# EAGLE library part ESPRESSIF_SYSTEMS_ESP32-PICO-D4 (library Upverter Library)
Bluetooth, WiFi 802.11b/g/n, Bluetooth v4.2 + EDR, Class 1, 2 and 3 Transceiver Module 2.4GHz ~ 2.5GHz Surface Mount
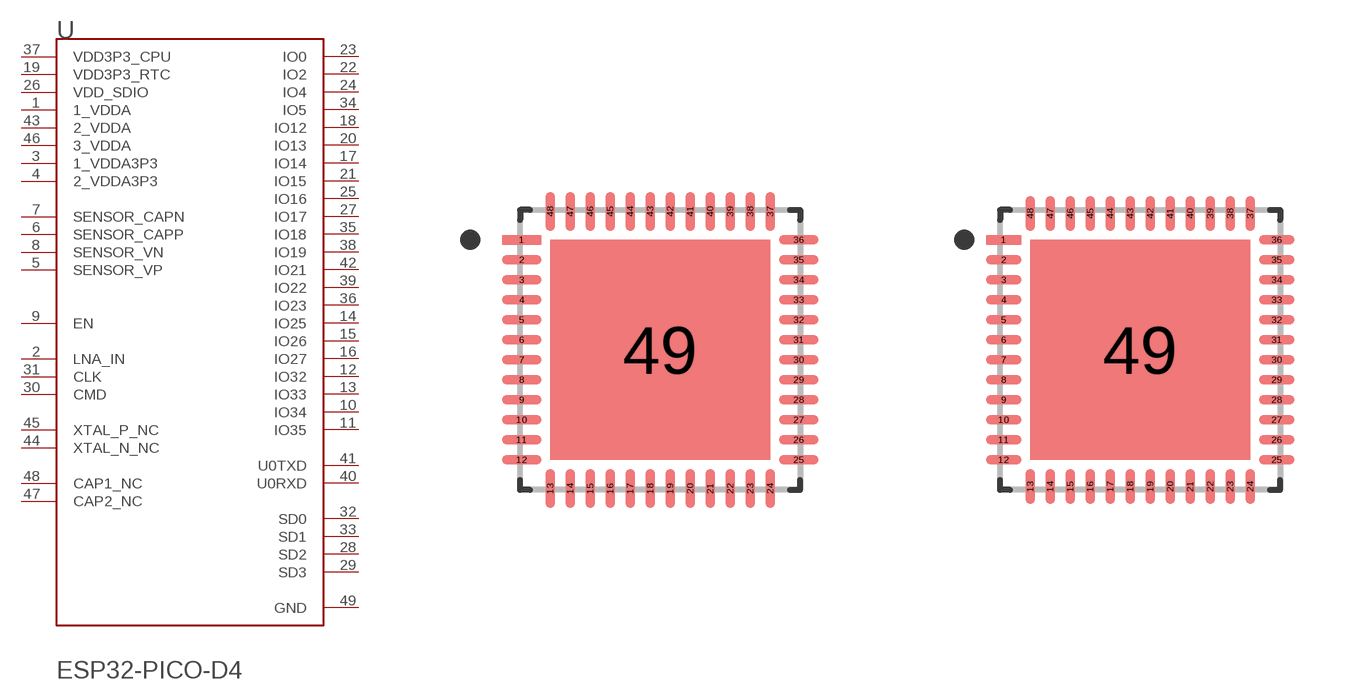
[diagram p0: symbol with the pads of ESPRESSIF_SYSTEMS_ESP32-PICO-D4_0; footprints ESPRESSIF_SYSTEMS_ESP32-PICO-D4_0, ESPRESSIF_SYSTEMS_ESP32-PICO-D4_1]

Designator prefix U

## ESPRESSIF_SYSTEMS_ESP32-PICO-D4ESPRESSIF_SYSTEMS_ESP32-PICO-D4_0_0 (MF: Espressif Systems; MPN: ESP32-PICO-D4; automotive: No; bandwidth: 72MHz; centroid_not_specified: No; data_rate: 150Mbits/s; datasheet: https://www.espressif.com/sites/default/files/documentation/esp32-pico-d4_datasheet_en.pdf; device_class_L1: Integrated Circuits (ICs); device_class_L2: RF Semiconductors and Devices; device_class_L3: Transceivers; digikey_description: RX TXRX MOD WIFI SURFACE MOUNT; digikey_part_number: 1904-1029-1-ND; footprint_parameters_0: {"fp_type":"QFN","params":{"N1":{"nom":12,"long name":"Leads on long side","min":null,"max":null,"short name":"N1","type":"count"},"N2":{"nom":12,"long name":"Leads on wide side","min":null,"max":null,"short name":"N2","type":"count"},"A":{"nom":940000,"long name":"Height","min":840000,"max":1040000,"short name":"A","type":"measurement"},"A1":{"nom":false,"long name":"Package clearance","min":0,"max":50000,"short name":"A1","type":"measurement"},"A2":{"nom":false,"long name":"Package height","min":false,"max":1040000,"short name":"A2","type":"measurement"},"D":{"nom":7000000,"long name":"Package length","min":6900000,"max":7100000,"short name":"D","type":"measurement"},"E":{"nom":7000000,"long name":"Package width","min":6900000,"max":7100000,"short name":"E","type":"measurement"},"B":{"nom":250000,"long name":"Lead width","min":200000,"max":300000,"short name":"B","type":"measurement"},"C":{"nom":260000,"long name":"Lead thickness","min":null,"max":null,"short name":"C","type":"measurement"},"L":{"nom":400000,"long name":"Lead foot length","min":325000,"max":475000,"short name":"L","type":"measurement"},"e":{"nom":500000,"long name":"Lead pitch","min":null,"max":null,"short name":"e","type":"measurement"},"D2":{"nom":5400000,"long name":"Thermal pad length","min":5300000,"max":5500000,"short name":"D2","type":"measurement"},"E2":{"nom":5400000,"long name":"Thermal pad width","min":5300000,"max":5500000,"short name":"E2","type":"measurement"},"PC":{"long name":"Paste coverage (%)","type":"percentage","short name":"PC","value":40},"HT":{"default":"Yes","long name":"Thermal pad","type":"multichoiceparent","short name":"HT","children":["D2","E2","PC"]},"offset x":{"nom":0,"long name":"X Center offset","min":null,"max":null,"short name":"offset x","type":"measurement"},"offset y":{"nom":0,"long name":"Y Center offset","min":null,"max":null,"short name":"offset y","type":"measurement"},"LS":{"default":"Rounded rectangle","long name":"Land shape","type":"multichoice","short name":"LS"},"LS1":{"default":"Rectangle","long name":"Land shape (Pin 1)","type":"multichoice","short name":"LS1"},"solder toe":{"nom":400000,"long name":"Solder fillet (toe)","min":null,"max":null,"short name":"solder toe","type":"fixedmeasurement"},"solder heel":{"nom":0,"long name":"Solder fillet (heel)","min":null,"max":null,"short name":"solder heel","type":"fixedmeasurement"},"solder side":{"nom":-40000,"long name":"Solder fillet (side)","min":null,"max":null,"short name":"solder side","type":"fixedmeasurement"},"courtyard":{"nom":500000,"long name":"Courtyard","min":null,"max":null,"short name":"courtyard","type":"fixedmeasurement"},"SF":{"default":"A","long name":"Packing level","type":"multichoiceparent","short name":"SF","help":"http://support.upverter.com/customer/portal/articles/978783-what-is-a-footprint-packing-level","children":["solder toe","solder heel","solder side","courtyard"]}}}; footprint_parameters_1: {"fp_type":"QFN","params":{"N1":{"nom":12,"long name":"Leads on long side","min":null,"max":null,"short name":"N1","type":"count"},"N2":{"nom":12,"long name":"Leads on wide side","min":null,"max":null,"short name":"N2","type":"count"},"A":{"nom":940000,"long name":"Height","min":840000,"max":1040000,"short name":"A","type":"measurement"},"A1":{"nom":false,"long name":"Package clearance","min":0,"max":50000,"short name":"A1","type":"measurement"},"A2":{"nom":false,"long name":"Package height","min":false,"max":1040000,"short name":"A2","type":"measurement"},"D":{"nom":7000000,"long name":"Package length","min":6900000,"max":7100000,"short name":"D","type":"measurement"},"E":{"nom":7000000,"long name":"Package width","min":6900000,"max":7100000,"short name":"E","type":"measurement"},"B":{"nom":250000,"long name":"Lead width","min":200000,"max":300000,"short name":"B","type":"measurement"},"C":{"nom":260000,"long name":"Lead thickness","min":null,"max":null,"short name":"C","type":"measurement"},"L":{"nom":400000,"long name":"Lead foot length","min":325000,"max":475000,"short name":"L","type":"measurement"},"e":{"nom":500000,"long name":"Lead pitch","min":null,"max":null,"short name":"e","type":"measurement"},"D2":{"nom":5400000,"long name":"Thermal pad length","min":5300000,"max":5500000,"short name":"D2","type":"measurement"},"E2":{"nom":5400000,"long name":"Thermal pad width","min":5300000,"max":5500000,"short name":"E2","type":"measurement"},"PC":{"long name":"Paste coverage (%)","type":"percentage","short name":"PC","value":40},"HT":{"default":"Yes","long name":"Thermal pad","type":"multichoiceparent","short name":"HT","children":["D2","E2","PC"]},"offset x":{"nom":0,"long name":"X Center offset","min":null,"max":null,"short name":"offset x","type":"measurement"},"offset y":{"nom":0,"long name":"Y Center offset","min":null,"max":null,"short name":"offset y","type":"measurement"},"LS":{"default":"Rounded rectangle","long name":"Land shape","type":"multichoice","short name":"LS"},"LS1":{"default":"Rectangle","long name":"Land shape (Pin 1)","type":"multichoice","short name":"LS1"},"solder toe":{"nom":300000,"long name":"Solder fillet (toe)","min":null,"max":null,"short name":"solder toe","type":"fixedmeasurement"},"solder heel":{"nom":0,"long name":"Solder fillet (heel)","min":null,"max":null,"short name":"solder heel","type":"fixedmeasurement"},"solder side":{"nom":-40000,"long name":"Solder fillet (side)","min":null,"max":null,"short name":"solder side","type":"fixedmeasurement"},"courtyard":{"nom":250000,"long name":"Courtyard","min":null,"max":null,"short name":"courtyard","type":"fixedmeasurement"},"SF":{"default":"B","long name":"Packing level","type":"multichoiceparent","short name":"SF","help":"http://support.upverter.com/customer/portal/articles/978783-what-is-a-footprint-packing-level","children":["solder toe","solder heel","solder side","courtyard"]}}}; footprint_parameters_2: {"fp_type":"QFN","params":{"N1":{"nom":12,"long name":"Leads on long side","min":null,"max":null,"short name":"N1","type":"count"},"N2":{"nom":12,"long name":"Leads on wide side","min":null,"max":null,"short name":"N2","type":"count"},"A":{"nom":940000,"long name":"Height","min":840000,"max":1040000,"short name":"A","type":"measurement"},"A1":{"nom":false,"long name":"Package clearance","min":0,"max":50000,"short name":"A1","type":"measurement"},"A2":{"nom":false,"long name":"Package height","min":false,"max":1040000,"short name":"A2","type":"measurement"},"D":{"nom":7000000,"long name":"Package length","min":6900000,"max":7100000,"short name":"D","type":"measurement"},"E":{"nom":7000000,"long name":"Package width","min":6900000,"max":7100000,"short name":"E","type":"measurement"},"B":{"nom":250000,"long name":"Lead width","min":200000,"max":300000,"short name":"B","type":"measurement"},"C":{"nom":260000,"long name":"Lead thickness","min":null,"max":null,"short name":"C","type":"measurement"},"L":{"nom":400000,"long name":"Lead foot length","min":325000,"max":475000,"short name":"L","type":"measurement"},"e":{"nom":500000,"long name":"Lead pitch","min":null,"max":null,"short name":"e","type":"measurement"},"D2":{"nom":5400000,"long name":"Thermal pad length","min":5300000,"max":5500000,"short name":"D2","type":"measurement"},"E2":{"nom":5400000,"long name":"Thermal pad width","min":5300000,"max":5500000,"short name":"E2","type":"measurement"},"PC":{"long name":"Paste coverage (%)","type":"percentage","short name":"PC","value":40},"HT":{"default":"Yes","long name":"Thermal pad","type":"multichoiceparent","short name":"HT","children":["D2","E2","PC"]},"offset x":{"nom":0,"long name":"X Center offset","min":null,"max":null,"short name":"offset x","type":"measurement"},"offset y":{"nom":0,"long name":"Y Center offset","min":null,"max":null,"short name":"offset y","type":"measurement"},"LS":{"default":"Rounded rectangle","long name":"Land shape","type":"multichoice","short name":"LS"},"LS1":{"default":"Rectangle","long name":"Land shape (Pin 1)","type":"multichoice","short name":"LS1"},"solder toe":{"nom":200000,"long name":"Solder fillet (toe)","min":null,"max":null,"short name":"solder toe","type":"fixedmeasurement"},"solder heel":{"nom":0,"long name":"Solder fillet (heel)","min":null,"max":null,"short name":"solder heel","type":"fixedmeasurement"},"solder side":{"nom":-40000,"long name":"Solder fillet (side)","min":null,"max":null,"short name":"solder side","type":"fixedmeasurement"},"courtyard":{"nom":100000,"long name":"Courtyard","min":null,"max":null,"short name":"courtyard","type":"fixedmeasurement"},"SF":{"default":"C","long name":"Packing level","type":"multichoiceparent","short name":"SF","help":"http://support.upverter.com/customer/portal/articles/978783-what-is-a-footprint-packing-level","children":["solder toe","solder heel","solder side","courtyard"]}}}; footprint_variant_name_0: IPC_A; footprint_variant_name_1: IPC_B; footprint_variant_name_2: IPC_C; height: 1.04mm; interface: I2C,SPI,UART,I2S,Other; ipc_land_pattern_name: QFN50P700X700X94-48; lead_free: Yes; max_frequency: 2484MHz; max_supply_voltage: 3.6V; mfg_package_ident: 0; mfg_package_ident_date: 0; mfg_package_ident_rev: 0; min_supply_voltage: 3V; mouser_part_number: 356-ESP32-PICO-D4; nominal_supply_current: 0.5A; number_of_ADC_channels: 18; number_of_GPIO: 23; package: QFN48; prefix: U; rohs: Yes; sensitivity: -97dBm; temperature_range_high: +85°C; temperature_range_low: -40°C; verification_version: 0.0.0.3)  [ESPRESSIF_SYSTEMS_ESP32-PICO-D4_0]
1  1_VDDA  pwr
2  LNA_IN
3  1_VDDA3P3  pwr
4  2_VDDA3P3  pwr
5  SENSOR_VP  in
6  SENSOR_CAPP  in
7  SENSOR_CAPN  in
8  SENSOR_VN  in
9  EN  in
10  IO34
11  IO35
12  IO32
13  IO33
14  IO25
15  IO26
16  IO27
17  IO14
18  IO12
19  VDD3P3_RTC  pwr
20  IO13
21  IO15
22  IO2
23  IO0
24  IO4
25  IO16
26  VDD_SDIO  pwr
27  IO17
28  SD2
29  SD3
30  CMD
31  CLK  in
32  SD0
33  SD1
34  IO5
35  IO18
36  IO23
37  VDD3P3_CPU  pwr
38  IO19
39  IO22
40  U0RXD
41  U0TXD
42  IO21
43  2_VDDA  pwr
44  XTAL_N_NC  pas
45  XTAL_P_NC  pas
46  3_VDDA  pwr
47  CAP2_NC  pas
48  CAP1_NC  pas
49  GND  pwr

## ESPRESSIF_SYSTEMS_ESP32-PICO-D4ESPRESSIF_SYSTEMS_ESP32-PICO-D4_0_1 (MF: Espressif Systems; MPN: ESP32-PICO-D4; automotive: No; bandwidth: 72MHz; centroid_not_specified: No; data_rate: 150Mbits/s; datasheet: https://www.espressif.com/sites/default/files/documentation/esp32-pico-d4_datasheet_en.pdf; device_class_L1: Integrated Circuits (ICs); device_class_L2: RF Semiconductors and Devices; device_class_L3: Transceivers; digikey_description: RX TXRX MOD WIFI SURFACE MOUNT; digikey_part_number: 1904-1029-1-ND; footprint_parameters_0: {"fp_type":"QFN","params":{"N1":{"nom":12,"long name":"Leads on long side","min":null,"max":null,"short name":"N1","type":"count"},"N2":{"nom":12,"long name":"Leads on wide side","min":null,"max":null,"short name":"N2","type":"count"},"A":{"nom":940000,"long name":"Height","min":840000,"max":1040000,"short name":"A","type":"measurement"},"A1":{"nom":false,"long name":"Package clearance","min":0,"max":50000,"short name":"A1","type":"measurement"},"A2":{"nom":false,"long name":"Package height","min":false,"max":1040000,"short name":"A2","type":"measurement"},"D":{"nom":7000000,"long name":"Package length","min":6900000,"max":7100000,"short name":"D","type":"measurement"},"E":{"nom":7000000,"long name":"Package width","min":6900000,"max":7100000,"short name":"E","type":"measurement"},"B":{"nom":250000,"long name":"Lead width","min":200000,"max":300000,"short name":"B","type":"measurement"},"C":{"nom":260000,"long name":"Lead thickness","min":null,"max":null,"short name":"C","type":"measurement"},"L":{"nom":400000,"long name":"Lead foot length","min":325000,"max":475000,"short name":"L","type":"measurement"},"e":{"nom":500000,"long name":"Lead pitch","min":null,"max":null,"short name":"e","type":"measurement"},"D2":{"nom":5400000,"long name":"Thermal pad length","min":5300000,"max":5500000,"short name":"D2","type":"measurement"},"E2":{"nom":5400000,"long name":"Thermal pad width","min":5300000,"max":5500000,"short name":"E2","type":"measurement"},"PC":{"long name":"Paste coverage (%)","type":"percentage","short name":"PC","value":40},"HT":{"default":"Yes","long name":"Thermal pad","type":"multichoiceparent","short name":"HT","children":["D2","E2","PC"]},"offset x":{"nom":0,"long name":"X Center offset","min":null,"max":null,"short name":"offset x","type":"measurement"},"offset y":{"nom":0,"long name":"Y Center offset","min":null,"max":null,"short name":"offset y","type":"measurement"},"LS":{"default":"Rounded rectangle","long name":"Land shape","type":"multichoice","short name":"LS"},"LS1":{"default":"Rectangle","long name":"Land shape (Pin 1)","type":"multichoice","short name":"LS1"},"solder toe":{"nom":400000,"long name":"Solder fillet (toe)","min":null,"max":null,"short name":"solder toe","type":"fixedmeasurement"},"solder heel":{"nom":0,"long name":"Solder fillet (heel)","min":null,"max":null,"short name":"solder heel","type":"fixedmeasurement"},"solder side":{"nom":-40000,"long name":"Solder fillet (side)","min":null,"max":null,"short name":"solder side","type":"fixedmeasurement"},"courtyard":{"nom":500000,"long name":"Courtyard","min":null,"max":null,"short name":"courtyard","type":"fixedmeasurement"},"SF":{"default":"A","long name":"Packing level","type":"multichoiceparent","short name":"SF","help":"http://support.upverter.com/customer/portal/articles/978783-what-is-a-footprint-packing-level","children":["solder toe","solder heel","solder side","courtyard"]}}}; footprint_parameters_1: {"fp_type":"QFN","params":{"N1":{"nom":12,"long name":"Leads on long side","min":null,"max":null,"short name":"N1","type":"count"},"N2":{"nom":12,"long name":"Leads on wide side","min":null,"max":null,"short name":"N2","type":"count"},"A":{"nom":940000,"long name":"Height","min":840000,"max":1040000,"short name":"A","type":"measurement"},"A1":{"nom":false,"long name":"Package clearance","min":0,"max":50000,"short name":"A1","type":"measurement"},"A2":{"nom":false,"long name":"Package height","min":false,"max":1040000,"short name":"A2","type":"measurement"},"D":{"nom":7000000,"long name":"Package length","min":6900000,"max":7100000,"short name":"D","type":"measurement"},"E":{"nom":7000000,"long name":"Package width","min":6900000,"max":7100000,"short name":"E","type":"measurement"},"B":{"nom":250000,"long name":"Lead width","min":200000,"max":300000,"short name":"B","type":"measurement"},"C":{"nom":260000,"long name":"Lead thickness","min":null,"max":null,"short name":"C","type":"measurement"},"L":{"nom":400000,"long name":"Lead foot length","min":325000,"max":475000,"short name":"L","type":"measurement"},"e":{"nom":500000,"long name":"Lead pitch","min":null,"max":null,"short name":"e","type":"measurement"},"D2":{"nom":5400000,"long name":"Thermal pad length","min":5300000,"max":5500000,"short name":"D2","type":"measurement"},"E2":{"nom":5400000,"long name":"Thermal pad width","min":5300000,"max":5500000,"short name":"E2","type":"measurement"},"PC":{"long name":"Paste coverage (%)","type":"percentage","short name":"PC","value":40},"HT":{"default":"Yes","long name":"Thermal pad","type":"multichoiceparent","short name":"HT","children":["D2","E2","PC"]},"offset x":{"nom":0,"long name":"X Center offset","min":null,"max":null,"short name":"offset x","type":"measurement"},"offset y":{"nom":0,"long name":"Y Center offset","min":null,"max":null,"short name":"offset y","type":"measurement"},"LS":{"default":"Rounded rectangle","long name":"Land shape","type":"multichoice","short name":"LS"},"LS1":{"default":"Rectangle","long name":"Land shape (Pin 1)","type":"multichoice","short name":"LS1"},"solder toe":{"nom":300000,"long name":"Solder fillet (toe)","min":null,"max":null,"short name":"solder toe","type":"fixedmeasurement"},"solder heel":{"nom":0,"long name":"Solder fillet (heel)","min":null,"max":null,"short name":"solder heel","type":"fixedmeasurement"},"solder side":{"nom":-40000,"long name":"Solder fillet (side)","min":null,"max":null,"short name":"solder side","type":"fixedmeasurement"},"courtyard":{"nom":250000,"long name":"Courtyard","min":null,"max":null,"short name":"courtyard","type":"fixedmeasurement"},"SF":{"default":"B","long name":"Packing level","type":"multichoiceparent","short name":"SF","help":"http://support.upverter.com/customer/portal/articles/978783-what-is-a-footprint-packing-level","children":["solder toe","solder heel","solder side","courtyard"]}}}; footprint_parameters_2: {"fp_type":"QFN","params":{"N1":{"nom":12,"long name":"Leads on long side","min":null,"max":null,"short name":"N1","type":"count"},"N2":{"nom":12,"long name":"Leads on wide side","min":null,"max":null,"short name":"N2","type":"count"},"A":{"nom":940000,"long name":"Height","min":840000,"max":1040000,"short name":"A","type":"measurement"},"A1":{"nom":false,"long name":"Package clearance","min":0,"max":50000,"short name":"A1","type":"measurement"},"A2":{"nom":false,"long name":"Package height","min":false,"max":1040000,"short name":"A2","type":"measurement"},"D":{"nom":7000000,"long name":"Package length","min":6900000,"max":7100000,"short name":"D","type":"measurement"},"E":{"nom":7000000,"long name":"Package width","min":6900000,"max":7100000,"short name":"E","type":"measurement"},"B":{"nom":250000,"long name":"Lead width","min":200000,"max":300000,"short name":"B","type":"measurement"},"C":{"nom":260000,"long name":"Lead thickness","min":null,"max":null,"short name":"C","type":"measurement"},"L":{"nom":400000,"long name":"Lead foot length","min":325000,"max":475000,"short name":"L","type":"measurement"},"e":{"nom":500000,"long name":"Lead pitch","min":null,"max":null,"short name":"e","type":"measurement"},"D2":{"nom":5400000,"long name":"Thermal pad length","min":5300000,"max":5500000,"short name":"D2","type":"measurement"},"E2":{"nom":5400000,"long name":"Thermal pad width","min":5300000,"max":5500000,"short name":"E2","type":"measurement"},"PC":{"long name":"Paste coverage (%)","type":"percentage","short name":"PC","value":40},"HT":{"default":"Yes","long name":"Thermal pad","type":"multichoiceparent","short name":"HT","children":["D2","E2","PC"]},"offset x":{"nom":0,"long name":"X Center offset","min":null,"max":null,"short name":"offset x","type":"measurement"},"offset y":{"nom":0,"long name":"Y Center offset","min":null,"max":null,"short name":"offset y","type":"measurement"},"LS":{"default":"Rounded rectangle","long name":"Land shape","type":"multichoice","short name":"LS"},"LS1":{"default":"Rectangle","long name":"Land shape (Pin 1)","type":"multichoice","short name":"LS1"},"solder toe":{"nom":200000,"long name":"Solder fillet (toe)","min":null,"max":null,"short name":"solder toe","type":"fixedmeasurement"},"solder heel":{"nom":0,"long name":"Solder fillet (heel)","min":null,"max":null,"short name":"solder heel","type":"fixedmeasurement"},"solder side":{"nom":-40000,"long name":"Solder fillet (side)","min":null,"max":null,"short name":"solder side","type":"fixedmeasurement"},"courtyard":{"nom":100000,"long name":"Courtyard","min":null,"max":null,"short name":"courtyard","type":"fixedmeasurement"},"SF":{"default":"C","long name":"Packing level","type":"multichoiceparent","short name":"SF","help":"http://support.upverter.com/customer/portal/articles/978783-what-is-a-footprint-packing-level","children":["solder toe","solder heel","solder side","courtyard"]}}}; footprint_variant_name_0: IPC_A; footprint_variant_name_1: IPC_B; footprint_variant_name_2: IPC_C; height: 1.04mm; interface: I2C,SPI,UART,I2S,Other; ipc_land_pattern_name: QFN50P700X700X94-48; lead_free: Yes; max_frequency: 2484MHz; max_supply_voltage: 3.6V; mfg_package_ident: 0; mfg_package_ident_date: 0; mfg_package_ident_rev: 0; min_supply_voltage: 3V; mouser_part_number: 356-ESP32-PICO-D4; nominal_supply_current: 0.5A; number_of_ADC_channels: 18; number_of_GPIO: 23; package: QFN48; prefix: U; rohs: Yes; sensitivity: -97dBm; temperature_range_high: +85°C; temperature_range_low: -40°C; verification_version: 0.0.0.3)  [ESPRESSIF_SYSTEMS_ESP32-PICO-D4_1]
Pads as for ESPRESSIF_SYSTEMS_ESP32-PICO-D4_0

## ESPRESSIF_SYSTEMS_ESP32-PICO-D4ESPRESSIF_SYSTEMS_ESP32-PICO-D4_0_2 (MF: Espressif Systems; MPN: ESP32-PICO-D4; automotive: No; bandwidth: 72MHz; centroid_not_specified: No; data_rate: 150Mbits/s; datasheet: https://www.espressif.com/sites/default/files/documentation/esp32-pico-d4_datasheet_en.pdf; device_class_L1: Integrated Circuits (ICs); device_class_L2: RF Semiconductors and Devices; device_class_L3: Transceivers; digikey_description: RX TXRX MOD WIFI SURFACE MOUNT; digikey_part_number: 1904-1029-1-ND; footprint_parameters_0: {"fp_type":"QFN","params":{"N1":{"nom":12,"long name":"Leads on long side","min":null,"max":null,"short name":"N1","type":"count"},"N2":{"nom":12,"long name":"Leads on wide side","min":null,"max":null,"short name":"N2","type":"count"},"A":{"nom":940000,"long name":"Height","min":840000,"max":1040000,"short name":"A","type":"measurement"},"A1":{"nom":false,"long name":"Package clearance","min":0,"max":50000,"short name":"A1","type":"measurement"},"A2":{"nom":false,"long name":"Package height","min":false,"max":1040000,"short name":"A2","type":"measurement"},"D":{"nom":7000000,"long name":"Package length","min":6900000,"max":7100000,"short name":"D","type":"measurement"},"E":{"nom":7000000,"long name":"Package width","min":6900000,"max":7100000,"short name":"E","type":"measurement"},"B":{"nom":250000,"long name":"Lead width","min":200000,"max":300000,"short name":"B","type":"measurement"},"C":{"nom":260000,"long name":"Lead thickness","min":null,"max":null,"short name":"C","type":"measurement"},"L":{"nom":400000,"long name":"Lead foot length","min":325000,"max":475000,"short name":"L","type":"measurement"},"e":{"nom":500000,"long name":"Lead pitch","min":null,"max":null,"short name":"e","type":"measurement"},"D2":{"nom":5400000,"long name":"Thermal pad length","min":5300000,"max":5500000,"short name":"D2","type":"measurement"},"E2":{"nom":5400000,"long name":"Thermal pad width","min":5300000,"max":5500000,"short name":"E2","type":"measurement"},"PC":{"long name":"Paste coverage (%)","type":"percentage","short name":"PC","value":40},"HT":{"default":"Yes","long name":"Thermal pad","type":"multichoiceparent","short name":"HT","children":["D2","E2","PC"]},"offset x":{"nom":0,"long name":"X Center offset","min":null,"max":null,"short name":"offset x","type":"measurement"},"offset y":{"nom":0,"long name":"Y Center offset","min":null,"max":null,"short name":"offset y","type":"measurement"},"LS":{"default":"Rounded rectangle","long name":"Land shape","type":"multichoice","short name":"LS"},"LS1":{"default":"Rectangle","long name":"Land shape (Pin 1)","type":"multichoice","short name":"LS1"},"solder toe":{"nom":400000,"long name":"Solder fillet (toe)","min":null,"max":null,"short name":"solder toe","type":"fixedmeasurement"},"solder heel":{"nom":0,"long name":"Solder fillet (heel)","min":null,"max":null,"short name":"solder heel","type":"fixedmeasurement"},"solder side":{"nom":-40000,"long name":"Solder fillet (side)","min":null,"max":null,"short name":"solder side","type":"fixedmeasurement"},"courtyard":{"nom":500000,"long name":"Courtyard","min":null,"max":null,"short name":"courtyard","type":"fixedmeasurement"},"SF":{"default":"A","long name":"Packing level","type":"multichoiceparent","short name":"SF","help":"http://support.upverter.com/customer/portal/articles/978783-what-is-a-footprint-packing-level","children":["solder toe","solder heel","solder side","courtyard"]}}}; footprint_parameters_1: {"fp_type":"QFN","params":{"N1":{"nom":12,"long name":"Leads on long side","min":null,"max":null,"short name":"N1","type":"count"},"N2":{"nom":12,"long name":"Leads on wide side","min":null,"max":null,"short name":"N2","type":"count"},"A":{"nom":940000,"long name":"Height","min":840000,"max":1040000,"short name":"A","type":"measurement"},"A1":{"nom":false,"long name":"Package clearance","min":0,"max":50000,"short name":"A1","type":"measurement"},"A2":{"nom":false,"long name":"Package height","min":false,"max":1040000,"short name":"A2","type":"measurement"},"D":{"nom":7000000,"long name":"Package length","min":6900000,"max":7100000,"short name":"D","type":"measurement"},"E":{"nom":7000000,"long name":"Package width","min":6900000,"max":7100000,"short name":"E","type":"measurement"},"B":{"nom":250000,"long name":"Lead width","min":200000,"max":300000,"short name":"B","type":"measurement"},"C":{"nom":260000,"long name":"Lead thickness","min":null,"max":null,"short name":"C","type":"measurement"},"L":{"nom":400000,"long name":"Lead foot length","min":325000,"max":475000,"short name":"L","type":"measurement"},"e":{"nom":500000,"long name":"Lead pitch","min":null,"max":null,"short name":"e","type":"measurement"},"D2":{"nom":5400000,"long name":"Thermal pad length","min":5300000,"max":5500000,"short name":"D2","type":"measurement"},"E2":{"nom":5400000,"long name":"Thermal pad width","min":5300000,"max":5500000,"short name":"E2","type":"measurement"},"PC":{"long name":"Paste coverage (%)","type":"percentage","short name":"PC","value":40},"HT":{"default":"Yes","long name":"Thermal pad","type":"multichoiceparent","short name":"HT","children":["D2","E2","PC"]},"offset x":{"nom":0,"long name":"X Center offset","min":null,"max":null,"short name":"offset x","type":"measurement"},"offset y":{"nom":0,"long name":"Y Center offset","min":null,"max":null,"short name":"offset y","type":"measurement"},"LS":{"default":"Rounded rectangle","long name":"Land shape","type":"multichoice","short name":"LS"},"LS1":{"default":"Rectangle","long name":"Land shape (Pin 1)","type":"multichoice","short name":"LS1"},"solder toe":{"nom":300000,"long name":"Solder fillet (toe)","min":null,"max":null,"short name":"solder toe","type":"fixedmeasurement"},"solder heel":{"nom":0,"long name":"Solder fillet (heel)","min":null,"max":null,"short name":"solder heel","type":"fixedmeasurement"},"solder side":{"nom":-40000,"long name":"Solder fillet (side)","min":null,"max":null,"short name":"solder side","type":"fixedmeasurement"},"courtyard":{"nom":250000,"long name":"Courtyard","min":null,"max":null,"short name":"courtyard","type":"fixedmeasurement"},"SF":{"default":"B","long name":"Packing level","type":"multichoiceparent","short name":"SF","help":"http://support.upverter.com/customer/portal/articles/978783-what-is-a-footprint-packing-level","children":["solder toe","solder heel","solder side","courtyard"]}}}; footprint_parameters_2: {"fp_type":"QFN","params":{"N1":{"nom":12,"long name":"Leads on long side","min":null,"max":null,"short name":"N1","type":"count"},"N2":{"nom":12,"long name":"Leads on wide side","min":null,"max":null,"short name":"N2","type":"count"},"A":{"nom":940000,"long name":"Height","min":840000,"max":1040000,"short name":"A","type":"measurement"},"A1":{"nom":false,"long name":"Package clearance","min":0,"max":50000,"short name":"A1","type":"measurement"},"A2":{"nom":false,"long name":"Package height","min":false,"max":1040000,"short name":"A2","type":"measurement"},"D":{"nom":7000000,"long name":"Package length","min":6900000,"max":7100000,"short name":"D","type":"measurement"},"E":{"nom":7000000,"long name":"Package width","min":6900000,"max":7100000,"short name":"E","type":"measurement"},"B":{"nom":250000,"long name":"Lead width","min":200000,"max":300000,"short name":"B","type":"measurement"},"C":{"nom":260000,"long name":"Lead thickness","min":null,"max":null,"short name":"C","type":"measurement"},"L":{"nom":400000,"long name":"Lead foot length","min":325000,"max":475000,"short name":"L","type":"measurement"},"e":{"nom":500000,"long name":"Lead pitch","min":null,"max":null,"short name":"e","type":"measurement"},"D2":{"nom":5400000,"long name":"Thermal pad length","min":5300000,"max":5500000,"short name":"D2","type":"measurement"},"E2":{"nom":5400000,"long name":"Thermal pad width","min":5300000,"max":5500000,"short name":"E2","type":"measurement"},"PC":{"long name":"Paste coverage (%)","type":"percentage","short name":"PC","value":40},"HT":{"default":"Yes","long name":"Thermal pad","type":"multichoiceparent","short name":"HT","children":["D2","E2","PC"]},"offset x":{"nom":0,"long name":"X Center offset","min":null,"max":null,"short name":"offset x","type":"measurement"},"offset y":{"nom":0,"long name":"Y Center offset","min":null,"max":null,"short name":"offset y","type":"measurement"},"LS":{"default":"Rounded rectangle","long name":"Land shape","type":"multichoice","short name":"LS"},"LS1":{"default":"Rectangle","long name":"Land shape (Pin 1)","type":"multichoice","short name":"LS1"},"solder toe":{"nom":200000,"long name":"Solder fillet (toe)","min":null,"max":null,"short name":"solder toe","type":"fixedmeasurement"},"solder heel":{"nom":0,"long name":"Solder fillet (heel)","min":null,"max":null,"short name":"solder heel","type":"fixedmeasurement"},"solder side":{"nom":-40000,"long name":"Solder fillet (side)","min":null,"max":null,"short name":"solder side","type":"fixedmeasurement"},"courtyard":{"nom":100000,"long name":"Courtyard","min":null,"max":null,"short name":"courtyard","type":"fixedmeasurement"},"SF":{"default":"C","long name":"Packing level","type":"multichoiceparent","short name":"SF","help":"http://support.upverter.com/customer/portal/articles/978783-what-is-a-footprint-packing-level","children":["solder toe","solder heel","solder side","courtyard"]}}}; footprint_variant_name_0: IPC_A; footprint_variant_name_1: IPC_B; footprint_variant_name_2: IPC_C; height: 1.04mm; interface: I2C,SPI,UART,I2S,Other; ipc_land_pattern_name: QFN50P700X700X94-48; lead_free: Yes; max_frequency: 2484MHz; max_supply_voltage: 3.6V; mfg_package_ident: 0; mfg_package_ident_date: 0; mfg_package_ident_rev: 0; min_supply_voltage: 3V; mouser_part_number: 356-ESP32-PICO-D4; nominal_supply_current: 0.5A; number_of_ADC_channels: 18; number_of_GPIO: 23; package: QFN48; prefix: U; rohs: Yes; sensitivity: -97dBm; temperature_range_high: +85°C; temperature_range_low: -40°C; verification_version: 0.0.0.3)  [ESPRESSIF_SYSTEMS_ESP32-PICO-D4_2]
Pads as for ESPRESSIF_SYSTEMS_ESP32-PICO-D4_0

## Footprint ESPRESSIF_SYSTEMS_ESP32-PICO-D4_0 (pad centres in mm)
Bluetooth, WiFi 802.11b/g/n, Bluetooth v4.2 + EDR, Class 1, 2 and 3 Transceiver Module 2.4GHz ~ 2.5GHz Surface Mount
smd 0.985 x 0.242: 1 -3.463,2.75; 2 -3.463,2.25; 3 -3.463,1.75; 4 -3.463,1.25; 5 -3.463,0.75; 6 -3.463,0.25; 7 -3.463,-0.25; 8 -3.463,-0.75; 9 -3.463,-1.25; 10 -3.463,-1.75; 11 -3.463,-2.25; 12 -3.463,-2.75; 25 3.463,-2.75; 26 3.463,-2.25; 27 3.463,-1.75; 28 3.463,-1.25; 29 3.463,-0.75; 30 3.463,-0.25; 31 3.463,0.25; 32 3.463,0.75; 33 3.463,1.25; 34 3.463,1.75; 35 3.463,2.25; 36 3.463,2.75
smd 0.242 x 0.985: 13 -2.75,-3.463; 14 -2.25,-3.463; 15 -1.75,-3.463; 16 -1.25,-3.463; 17 -0.75,-3.463; 18 -0.25,-3.463; 19 0.25,-3.463; 20 0.75,-3.463; 21 1.25,-3.463; 22 1.75,-3.463; 23 2.25,-3.463; 24 2.75,-3.463; 37 2.75,3.463; 38 2.25,3.463; 39 1.75,3.463; 40 1.25,3.463; 41 0.75,3.463; 42 0.25,3.463; 43 -0.25,3.463; 44 -0.75,3.463; 45 -1.25,3.463; 46 -1.75,3.463; 47 -2.25,3.463; 48 -2.75,3.463
smd 5.5 x 5.5: 49 0,0

## Footprint ESPRESSIF_SYSTEMS_ESP32-PICO-D4_1 (pad centres in mm)
Bluetooth, WiFi 802.11b/g/n, Bluetooth v4.2 + EDR, Class 1, 2 and 3 Transceiver Module 2.4GHz ~ 2.5GHz Surface Mount
smd 0.885 x 0.242: 1 -3.413,2.75; 2 -3.413,2.25; 3 -3.413,1.75; 4 -3.413,1.25; 5 -3.413,0.75; 6 -3.413,0.25; 7 -3.413,-0.25; 8 -3.413,-0.75; 9 -3.413,-1.25; 10 -3.413,-1.75; 11 -3.413,-2.25; 12 -3.413,-2.75; 25 3.413,-2.75; 26 3.413,-2.25; 27 3.413,-1.75; 28 3.413,-1.25; 29 3.413,-0.75; 30 3.413,-0.25; 31 3.413,0.25; 32 3.413,0.75; 33 3.413,1.25; 34 3.413,1.75; 35 3.413,2.25; 36 3.413,2.75
smd 0.242 x 0.885: 13 -2.75,-3.413; 14 -2.25,-3.413; 15 -1.75,-3.413; 16 -1.25,-3.413; 17 -0.75,-3.413; 18 -0.25,-3.413; 19 0.25,-3.413; 20 0.75,-3.413; 21 1.25,-3.413; 22 1.75,-3.413; 23 2.25,-3.413; 24 2.75,-3.413; 37 2.75,3.413; 38 2.25,3.413; 39 1.75,3.413; 40 1.25,3.413; 41 0.75,3.413; 42 0.25,3.413; 43 -0.25,3.413; 44 -0.75,3.413; 45 -1.25,3.413; 46 -1.75,3.413; 47 -2.25,3.413; 48 -2.75,3.413
smd 5.5 x 5.5: 49 0,0

## Footprint ESPRESSIF_SYSTEMS_ESP32-PICO-D4_2 (pad centres in mm)
Bluetooth, WiFi 802.11b/g/n, Bluetooth v4.2 + EDR, Class 1, 2 and 3 Transceiver Module 2.4GHz ~ 2.5GHz Surface Mount
smd 0.785 x 0.242: 1 -3.363,2.75; 2 -3.363,2.25; 3 -3.363,1.75; 4 -3.363,1.25; 5 -3.363,0.75; 6 -3.363,0.25; 7 -3.363,-0.25; 8 -3.363,-0.75; 9 -3.363,-1.25; 10 -3.363,-1.75; 11 -3.363,-2.25; 12 -3.363,-2.75; 25 3.363,-2.75; 26 3.363,-2.25; 27 3.363,-1.75; 28 3.363,-1.25; 29 3.363,-0.75; 30 3.363,-0.25; 31 3.363,0.25; 32 3.363,0.75; 33 3.363,1.25; 34 3.363,1.75; 35 3.363,2.25; 36 3.363,2.75
smd 0.242 x 0.785: 13 -2.75,-3.363; 14 -2.25,-3.363; 15 -1.75,-3.363; 16 -1.25,-3.363; 17 -0.75,-3.363; 18 -0.25,-3.363; 19 0.25,-3.363; 20 0.75,-3.363; 21 1.25,-3.363; 22 1.75,-3.363; 23 2.25,-3.363; 24 2.75,-3.363; 37 2.75,3.363; 38 2.25,3.363; 39 1.75,3.363; 40 1.25,3.363; 41 0.75,3.363; 42 0.25,3.363; 43 -0.25,3.363; 44 -0.75,3.363; 45 -1.25,3.363; 46 -1.75,3.363; 47 -2.25,3.363; 48 -2.75,3.363
smd 5.5 x 5.5: 49 0,0